# EAGLE library part M50-3601042R (library NM_Visual_Cortex_12-10-18)
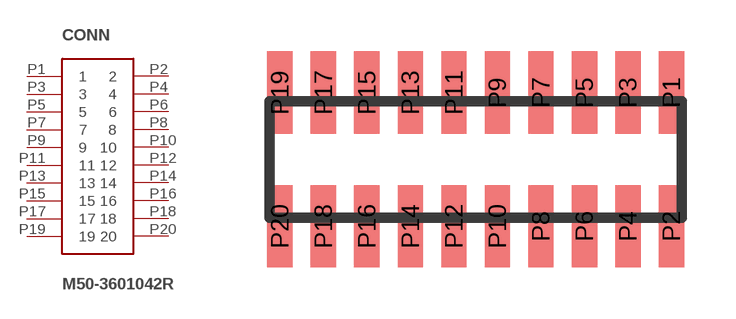
[diagram p3: symbol with the pads of 20P_SMT_HEADER; footprint 20P_SMT_HEADER]

Designator prefix CONN

## M50-3601042R  [20P_SMT_HEADER]
P1  1
P2  2
P3  3
P4  4
P5  5
P6  6
P7  7
P8  8
P9  9
P10  10
P11  11
P12  12
P13  13
P14  14
P15  15
P16  16
P17  17
P18  18
P19  19
P20  20

## Footprint 20P_SMT_HEADER (pad centres in mm)
smd 0.74 x 2.4: P1 6.35,1.95; P2 6.35,-1.95; P3 5.08,1.95; P4 5.08,-1.95; P5 3.81,1.95; P6 3.81,-1.95; P7 2.54,1.95; P8 2.54,-1.95; P9 1.27,1.95; P10 1.27,-1.95; P11 0,1.95; P12 0,-1.95; P13 -1.27,1.95; P14 -1.27,-1.95; P15 -2.54,1.95; P16 -2.54,-1.95; P17 -3.81,1.95; P18 -3.81,-1.95; P19 -5.08,1.95; P20 -5.08,-1.95